# EAGLE library part INA180 (library button_lib)
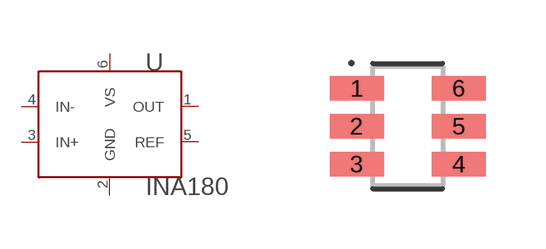
[diagram p3: symbol with the pads of SOT95P290X145-6; footprint SOT95P290X145-6]

Designator prefix U

## INA180SOT23-6  [SOT95P290X145-6]
1  OUT
2  GND
3  IN+  pwr
4  IN-
5  REF
6  VS  pwr

## Footprint SOT95P290X145-6 (pad centres in mm)
6-SOT23, 0.95 mm pitch, 2.9 mm span, 2.9 X 1.6 X 1.45 mm body 6-pin SOT23 package with 0.95 mm pitch, 2.9 mm span with body size 2.9 X 1.6 X 1.45 mm
smd 1.35 x 0.609: 1 -1.28,0.95; 2 -1.28,0; 3 -1.28,-0.95; 4 1.28,-0.95; 5 1.28,0; 6 1.28,0.95